# Altium schematic symbol library Анализатор .034 -лист 1.SchLib: 5 symbols
Pins are listed as number, name and electrical type; pins without a type are passive.

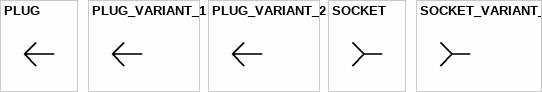
[diagram p0: symbols PLUG to SOCKET_VARIANT_1]

## PLUG
designator U?  (value not drawn)
Value: *
pins: 1

## PLUG_VARIANT_1
designator U?, comment PLUG  (value not drawn)
PLUG_VARIANT_1; Value: *
pins: 1

## PLUG_VARIANT_2
designator U?, comment PLUG  (value not drawn)
PLUG_VARIANT_2; Value: *
pins: 1

## SOCKET
designator U?  (value not drawn)
Value: *
pins: 1

## SOCKET_VARIANT_1
designator U?, comment SOCKET  (value not drawn)
SOCKET_VARIANT_1; Value: *
pins: 1